# Altium footprint library REUEF250.PcbLib: 1 footprints
Each footprint in its own frame and in the unit in brackets; x right, y up, seen from the top. Pads: shape width x height; smd on the part's side, far side on the other; paste and mask are expansions set on the pad; w line width, h text height; cw(c..) or ccw(c..) is an arc to the next point about the centre after c.
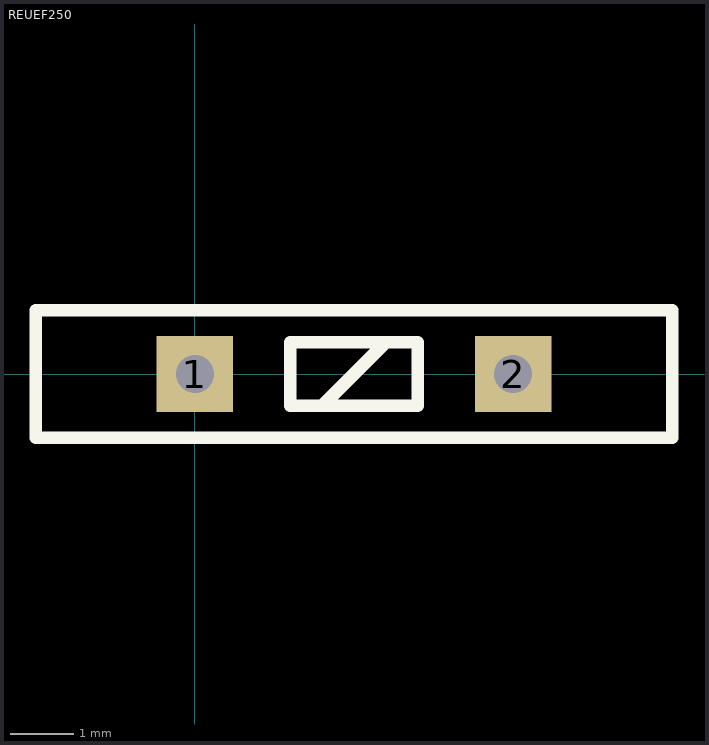
[diagram p0: the footprint, top view; thin cyan lines are the x and y axes]

## REUEF250 [mm]
height 0.381
pads (2):
  rect 1.2x1.2 hole 0.6: 1(0,0) 2(5,0)
Top Overlay:
  lines w0.2: 3,0.5 2,-0.5 1.5,-0.5 ; 1.5,-0.5 3.5,-0.5 3.5,0.5 1.5,0.5 1.5,-0.5 ; -2.5,-1 -2.5,0 -2.5,1 7.5,1 7.5,-1 -2.5,-1